# EAGLE library part LM4702 (library Audio-Power-amlifier V.2.0)
The LM4702 is a high fidelity audio power amplifier driver designed for demanding consumer and pro-audio applications. Amplifier output power may be scaled by changing the supply voltage and number of output devices. The LM4702 is capable of delivering in excess of 300 watts per channel single ended into an 8 ohm load in the presence of 10% high line headroom and 20% supply regulation. The LM4702 includes thermal shut down circuitry that activates when the die temperature exceeds 150°C. The LM4702's mute function, when activated, mutes the input drive signal and forces the amplifier output to a quiescent state.
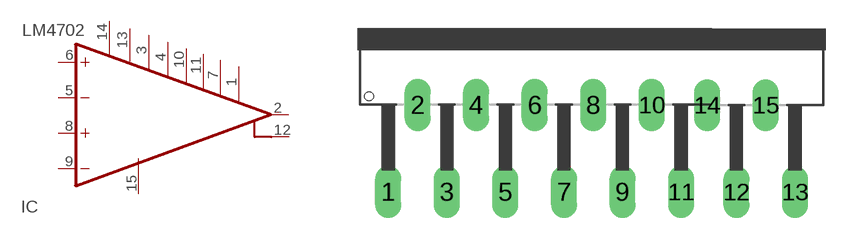
[diagram p86: symbol with the pads of TO220-15; footprint TO220-15]

Designator prefix IC

## LM4702  [TO220-15]
1  V+7  pwr
2  OUT  out
3  V+2  pwr
4  V+3  pwr
5  -INA  in
6  +INA  in
7  V+6  pwr
8  +INB  in
9  -INB  in
10  V+4  pwr
11  V+5  pwr
12  OUT1  out
13  V+  pwr
14  V+1  pwr
15  V-  pwr

## Footprint TO220-15 (pad centres in mm)
drill 1.016 long: 1 0.381,1.905; 2 2.083,6.96; 3 3.785,1.905; 4 5.486,6.96; 5 7.188,1.905; 6 8.89,6.96; 7 10.592,1.905; 8 12.294,6.96; 9 13.995,1.905; 10 15.697,6.96; 11 17.399,1.905; 12 20.615,1.895; 13 24.019,1.895; 14 18.914,6.95; 15 22.317,6.95